# EAGLE library part PP140-50CBS2.50X1.00 (library NewSDR)
Leadertech 2.50" x 1.00" x 0.5" shield with 0.5" Pin Pattern
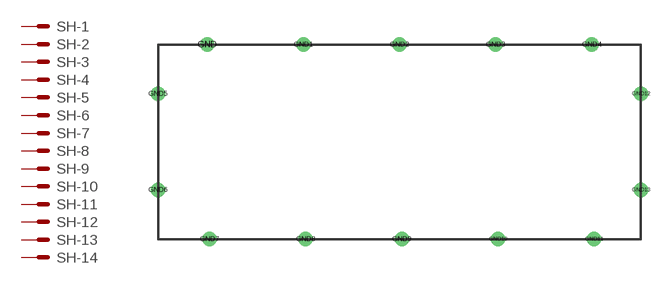
[diagram p196: symbol with the pads of PP140-50CBS2.50X1.00; footprint PP140-50CBS2.50X1.00]

Designator prefix SH; gates -1=MS -2=MS -3=MS -4=MS -5=MS -6=MS -7=MS -8=MS -9=MS -10=MS -11=MS -12=MS -13=MS -14=MS

## PP140-50CBS2.50X1.00  [PP140-50CBS2.50X1.00]
GND  -1:MS  pas
GND1  -2:MS  pas
GND2  -3:MS  pas
GND3  -4:MS  pas
GND4  -5:MS  pas
GND5  -6:MS  pas
GND6  -7:MS  pas
GND7  -8:MS  pas
GND8  -9:MS  pas
GND9  -10:MS  pas
GND10  -11:MS  pas
GND11  -12:MS  pas
GND12  -13:MS  pas
GND13  -14:MS  pas

## Footprint PP140-50CBS2.50X1.00 (pad centres in mm)
Leadertech 2.50" x 1.00" x 0.5" shield with 0.5" Pin Pattern
drill 1.27: GND 6.502,0; GND1 19.202,0; GND2 31.902,0; GND3 44.602,0; GND4 57.302,0; GND5 0,-6.502; GND6 0,-19.202; GND7 6.807,-25.705; GND8 19.507,-25.705; GND9 32.207,-25.705; GND10 44.907,-25.705; GND11 57.607,-25.705; GND12 63.805,-6.502; GND13 63.805,-19.202